# Altium integrated library Vishay Roederstein Electrolytic Snap-In Pins Capacitor.IntLib: 936 symbols (part 9 of 16)
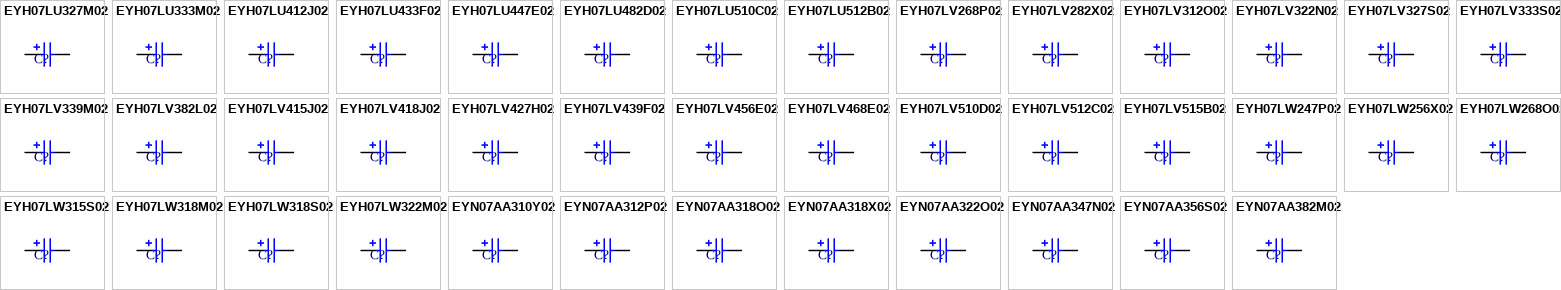
[diagram p31: symbols EYH07LU327M02 to EYN07AA382M02]

## EYH07LU333M02
designator C?
Aluminum Electrolytic Capacitor, Power Capacitor Style EYH, Snap-in 6mm Solder Pins: 330uF, 160V; PCB_Layout: Complies with Manufacturer's Recommendation.; DrillSize: Nominal, Complies with Manufacturer's Recommendation.; Published: 19-Mar-2004; DatasheetDocument: 14-Feb-2002; PackageReference: CAPPRS10-22X25; Publisher: Altium Limited; ComponentLink1Description: Manufacturer Link; ComponentLink1URL: http://www.vishay.com/; ComponentLink2Description: Datasheet; ComponentLink2URL: http://www.vishay.com/docs/25139/eyh.pdf; Value: 330uF
footprint CAPPRS10-22X25 (Capacitor, Electrolytic, Radial, Snap-In Pins; Body 22 x 25 mm (Dia.xH typ); Pin Spacing 10 mm (typ))
simulation model CAP (Capacitor)
signal-integrity model EYH07LU333M02
pins: 1, 2
1 alternate drawing of the same symbol

## EYH07LU412J02
designator C?
Aluminum Electrolytic Capacitor, Power Capacitor Style EYH, Snap-in 6mm Solder Pins: 1200uF, 63V; PCB_Layout: Complies with Manufacturer's Recommendation.; DrillSize: Nominal, Complies with Manufacturer's Recommendation.; Published: 19-Mar-2004; DatasheetDocument: 14-Feb-2002; PackageReference: CAPPRS10-22X25; Publisher: Altium Limited; ComponentLink1Description: Manufacturer Link; ComponentLink1URL: http://www.vishay.com/; ComponentLink2Description: Datasheet; ComponentLink2URL: http://www.vishay.com/docs/25139/eyh.pdf; Value: 1200uF
footprint CAPPRS10-22X25 (Capacitor, Electrolytic, Radial, Snap-In Pins; Body 22 x 25 mm (Dia.xH typ); Pin Spacing 10 mm (typ))
simulation model CAP (Capacitor)
signal-integrity model EYH07LU412J02
pins: 1, 2
1 alternate drawing of the same symbol

## EYH07LU433F02
designator C?
Aluminum Electrolytic Capacitor, Power Capacitor Style EYH, Snap-in 6mm Solder Pins: 3300uF, 35V; PCB_Layout: Complies with Manufacturer's Recommendation.; DrillSize: Nominal, Complies with Manufacturer's Recommendation.; Published: 19-Mar-2004; DatasheetDocument: 14-Feb-2002; PackageReference: CAPPRS10-22X25; Publisher: Altium Limited; ComponentLink1Description: Manufacturer Link; ComponentLink1URL: http://www.vishay.com/; ComponentLink2Description: Datasheet; ComponentLink2URL: http://www.vishay.com/docs/25139/eyh.pdf; Value: 3300uF
footprint CAPPRS10-22X25 (Capacitor, Electrolytic, Radial, Snap-In Pins; Body 22 x 25 mm (Dia.xH typ); Pin Spacing 10 mm (typ))
simulation model CAP (Capacitor)
signal-integrity model EYH07LU433F02
pins: 1, 2
1 alternate drawing of the same symbol

## EYH07LU447E02
designator C?
Aluminum Electrolytic Capacitor, Power Capacitor Style EYH, Snap-in 6mm Solder Pins: 4700uF, 25V; PCB_Layout: Complies with Manufacturer's Recommendation.; DrillSize: Nominal, Complies with Manufacturer's Recommendation.; Published: 19-Mar-2004; DatasheetDocument: 14-Feb-2002; PackageReference: CAPPRS10-22X25; Publisher: Altium Limited; ComponentLink1Description: Manufacturer Link; ComponentLink1URL: http://www.vishay.com/; ComponentLink2Description: Datasheet; ComponentLink2URL: http://www.vishay.com/docs/25139/eyh.pdf; Value: 4700uF
footprint CAPPRS10-22X25 (Capacitor, Electrolytic, Radial, Snap-In Pins; Body 22 x 25 mm (Dia.xH typ); Pin Spacing 10 mm (typ))
simulation model CAP (Capacitor)
signal-integrity model EYH07LU447E02
pins: 1, 2
1 alternate drawing of the same symbol

## EYH07LU482D02
designator C?
Aluminum Electrolytic Capacitor, Power Capacitor Style EYH, Snap-in 6mm Solder Pins: 8200uF, 16V; PCB_Layout: Complies with Manufacturer's Recommendation.; DrillSize: Nominal, Complies with Manufacturer's Recommendation.; Published: 19-Mar-2004; DatasheetDocument: 14-Feb-2002; PackageReference: CAPPRS10-22X25; Publisher: Altium Limited; ComponentLink1Description: Manufacturer Link; ComponentLink1URL: http://www.vishay.com/; ComponentLink2Description: Datasheet; ComponentLink2URL: http://www.vishay.com/docs/25139/eyh.pdf; Value: 8200uF
footprint CAPPRS10-22X25 (Capacitor, Electrolytic, Radial, Snap-In Pins; Body 22 x 25 mm (Dia.xH typ); Pin Spacing 10 mm (typ))
simulation model CAP (Capacitor)
signal-integrity model EYH07LU482D02
pins: 1, 2
1 alternate drawing of the same symbol

## EYH07LU510C02
designator C?
Aluminum Electrolytic Capacitor, Power Capacitor Style EYH, Snap-in 6mm Solder Pins: 10000uF, 10V; PCB_Layout: Complies with Manufacturer's Recommendation.; DrillSize: Nominal, Complies with Manufacturer's Recommendation.; Published: 19-Mar-2004; DatasheetDocument: 14-Feb-2002; PackageReference: CAPPRS10-22X25; Publisher: Altium Limited; ComponentLink1Description: Manufacturer Link; ComponentLink1URL: http://www.vishay.com/; ComponentLink2Description: Datasheet; ComponentLink2URL: http://www.vishay.com/docs/25139/eyh.pdf; Value: 10000uF
footprint CAPPRS10-22X25 (Capacitor, Electrolytic, Radial, Snap-In Pins; Body 22 x 25 mm (Dia.xH typ); Pin Spacing 10 mm (typ))
simulation model CAP (Capacitor)
signal-integrity model EYH07LU510C02
pins: 1, 2
1 alternate drawing of the same symbol

## EYH07LU512B02
designator C?
Aluminum Electrolytic Capacitor, Power Capacitor Style EYH, Snap-in 6mm Solder Pins: 12000uF, 6.3V; PCB_Layout: Complies with Manufacturer's Recommendation.; DrillSize: Nominal, Complies with Manufacturer's Recommendation.; Published: 19-Mar-2004; DatasheetDocument: 14-Feb-2002; PackageReference: CAPPRS10-22X25; Publisher: Altium Limited; ComponentLink1Description: Manufacturer Link; ComponentLink1URL: http://www.vishay.com/; ComponentLink2Description: Datasheet; ComponentLink2URL: http://www.vishay.com/docs/25139/eyh.pdf; Value: 12000uF
footprint CAPPRS10-22X25 (Capacitor, Electrolytic, Radial, Snap-In Pins; Body 22 x 25 mm (Dia.xH typ); Pin Spacing 10 mm (typ))
simulation model CAP (Capacitor)
signal-integrity model EYH07LU512B02
pins: 1, 2
1 alternate drawing of the same symbol

## EYH07LV268P02
designator C?
Aluminum Electrolytic Capacitor, Power Capacitor Style EYH, Snap-in 6mm Solder Pins: 68uF, 450V; PCB_Layout: Complies with Manufacturer's Recommendation.; DrillSize: Nominal, Complies with Manufacturer's Recommendation.; Published: 19-Mar-2004; DatasheetDocument: 14-Feb-2002; PackageReference: CAPPRS10-22X30; Publisher: Altium Limited; ComponentLink1Description: Manufacturer Link; ComponentLink1URL: http://www.vishay.com/; ComponentLink2Description: Datasheet; ComponentLink2URL: http://www.vishay.com/docs/25139/eyh.pdf; Value: 68uF
footprint CAPPRS10-22X30 (Capacitor, Electrolytic, Radial, Snap-In Pins; Body 22 x 30 mm (Dia.xH typ); Pin Spacing 10 mm (typ))
simulation model CAP (Capacitor)
signal-integrity model EYH07LV268P02
pins: 1, 2
1 alternate drawing of the same symbol

## EYH07LV282X02
designator C?
Aluminum Electrolytic Capacitor, Power Capacitor Style EYH, Snap-in 6mm Solder Pins: 82uF, 400V; PCB_Layout: Complies with Manufacturer's Recommendation.; DrillSize: Nominal, Complies with Manufacturer's Recommendation.; Published: 19-Mar-2004; DatasheetDocument: 14-Feb-2002; PackageReference: CAPPRS10-22X30; Publisher: Altium Limited; ComponentLink1Description: Manufacturer Link; ComponentLink1URL: http://www.vishay.com/; ComponentLink2Description: Datasheet; ComponentLink2URL: http://www.vishay.com/docs/25139/eyh.pdf; Value: 82uF
footprint CAPPRS10-22X30 (Capacitor, Electrolytic, Radial, Snap-In Pins; Body 22 x 30 mm (Dia.xH typ); Pin Spacing 10 mm (typ))
simulation model CAP (Capacitor)
signal-integrity model EYH07LV282X02
pins: 1, 2
1 alternate drawing of the same symbol

## EYH07LV312O02
designator C?
Aluminum Electrolytic Capacitor, Power Capacitor Style EYH, Snap-in 6mm Solder Pins: 120uF, 350V; PCB_Layout: Complies with Manufacturer's Recommendation.; DrillSize: Nominal, Complies with Manufacturer's Recommendation.; Published: 19-Mar-2004; DatasheetDocument: 14-Feb-2002; PackageReference: CAPPRS10-22X30; Publisher: Altium Limited; ComponentLink1Description: Manufacturer Link; ComponentLink1URL: http://www.vishay.com/; ComponentLink2Description: Datasheet; ComponentLink2URL: http://www.vishay.com/docs/25139/eyh.pdf; Value: 120uF
footprint CAPPRS10-22X30 (Capacitor, Electrolytic, Radial, Snap-In Pins; Body 22 x 30 mm (Dia.xH typ); Pin Spacing 10 mm (typ))
simulation model CAP (Capacitor)
signal-integrity model EYH07LV312O02
pins: 1, 2
1 alternate drawing of the same symbol

## EYH07LV322N02
designator C?
Aluminum Electrolytic Capacitor, Power Capacitor Style EYH, Snap-in 6mm Solder Pins: 220uF, 250V; PCB_Layout: Complies with Manufacturer's Recommendation.; DrillSize: Nominal, Complies with Manufacturer's Recommendation.; Published: 19-Mar-2004; DatasheetDocument: 14-Feb-2002; PackageReference: CAPPRS10-22X30; Publisher: Altium Limited; ComponentLink1Description: Manufacturer Link; ComponentLink1URL: http://www.vishay.com/; ComponentLink2Description: Datasheet; ComponentLink2URL: http://www.vishay.com/docs/25139/eyh.pdf; Value: 220uF
footprint CAPPRS10-22X30 (Capacitor, Electrolytic, Radial, Snap-In Pins; Body 22 x 30 mm (Dia.xH typ); Pin Spacing 10 mm (typ))
simulation model CAP (Capacitor)
signal-integrity model EYH07LV322N02
pins: 1, 2
1 alternate drawing of the same symbol

## EYH07LV327S02
designator C?
Aluminum Electrolytic Capacitor, Power Capacitor Style EYH, Snap-in 6mm Solder Pins: 270uF, 200V; PCB_Layout: Complies with Manufacturer's Recommendation.; DrillSize: Nominal, Complies with Manufacturer's Recommendation.; Published: 19-Mar-2004; DatasheetDocument: 14-Feb-2002; PackageReference: CAPPRS10-22X30; Publisher: Altium Limited; ComponentLink1Description: Manufacturer Link; ComponentLink1URL: http://www.vishay.com/; ComponentLink2Description: Datasheet; ComponentLink2URL: http://www.vishay.com/docs/25139/eyh.pdf; Value: 270uF
footprint CAPPRS10-22X30 (Capacitor, Electrolytic, Radial, Snap-In Pins; Body 22 x 30 mm (Dia.xH typ); Pin Spacing 10 mm (typ))
simulation model CAP (Capacitor)
signal-integrity model EYH07LV327S02
pins: 1, 2
1 alternate drawing of the same symbol

## EYH07LV333S02
designator C?
Aluminum Electrolytic Capacitor, Power Capacitor Style EYH, Snap-in 6mm Solder Pins: 330uF, 200V; PCB_Layout: Complies with Manufacturer's Recommendation.; DrillSize: Nominal, Complies with Manufacturer's Recommendation.; Published: 19-Mar-2004; DatasheetDocument: 14-Feb-2002; PackageReference: CAPPRS10-22X30; Publisher: Altium Limited; ComponentLink1Description: Manufacturer Link; ComponentLink1URL: http://www.vishay.com/; ComponentLink2Description: Datasheet; ComponentLink2URL: http://www.vishay.com/docs/25139/eyh.pdf; Value: 330uF
footprint CAPPRS10-22X30 (Capacitor, Electrolytic, Radial, Snap-In Pins; Body 22 x 30 mm (Dia.xH typ); Pin Spacing 10 mm (typ))
simulation model CAP (Capacitor)
signal-integrity model EYH07LV333S02
pins: 1, 2
1 alternate drawing of the same symbol

## EYH07LV339M02
designator C?
Aluminum Electrolytic Capacitor, Power Capacitor Style EYH, Snap-in 6mm Solder Pins: 390uF, 160V; PCB_Layout: Complies with Manufacturer's Recommendation.; DrillSize: Nominal, Complies with Manufacturer's Recommendation.; Published: 19-Mar-2004; DatasheetDocument: 14-Feb-2002; PackageReference: CAPPRS10-22X30; Publisher: Altium Limited; ComponentLink1Description: Manufacturer Link; ComponentLink1URL: http://www.vishay.com/; ComponentLink2Description: Datasheet; ComponentLink2URL: http://www.vishay.com/docs/25139/eyh.pdf; Value: 390uF
footprint CAPPRS10-22X30 (Capacitor, Electrolytic, Radial, Snap-In Pins; Body 22 x 30 mm (Dia.xH typ); Pin Spacing 10 mm (typ))
simulation model CAP (Capacitor)
signal-integrity model EYH07LV339M02
pins: 1, 2
1 alternate drawing of the same symbol

## EYH07LV382L02
designator C?
Aluminum Electrolytic Capacitor, Power Capacitor Style EYH, Snap-in 6mm Solder Pins: 820uF, 100V; PCB_Layout: Complies with Manufacturer's Recommendation.; DrillSize: Nominal, Complies with Manufacturer's Recommendation.; Published: 19-Mar-2004; DatasheetDocument: 14-Feb-2002; PackageReference: CAPPRS10-22X30; Publisher: Altium Limited; ComponentLink1Description: Manufacturer Link; ComponentLink1URL: http://www.vishay.com/; ComponentLink2Description: Datasheet; ComponentLink2URL: http://www.vishay.com/docs/25139/eyh.pdf; Value: 820uF
footprint CAPPRS10-22X30 (Capacitor, Electrolytic, Radial, Snap-In Pins; Body 22 x 30 mm (Dia.xH typ); Pin Spacing 10 mm (typ))
simulation model CAP (Capacitor)
signal-integrity model EYH07LV382L02
pins: 1, 2
1 alternate drawing of the same symbol

## EYH07LV415J02
designator C?
Aluminum Electrolytic Capacitor, Power Capacitor Style EYH, Snap-in 6mm Solder Pins: 1500uF, 63V; PCB_Layout: Complies with Manufacturer's Recommendation.; DrillSize: Nominal, Complies with Manufacturer's Recommendation.; Published: 19-Mar-2004; DatasheetDocument: 14-Feb-2002; PackageReference: CAPPRS10-22X30; Publisher: Altium Limited; ComponentLink1Description: Manufacturer Link; ComponentLink1URL: http://www.vishay.com/; ComponentLink2Description: Datasheet; ComponentLink2URL: http://www.vishay.com/docs/25139/eyh.pdf; Value: 1500uF
footprint CAPPRS10-22X30 (Capacitor, Electrolytic, Radial, Snap-In Pins; Body 22 x 30 mm (Dia.xH typ); Pin Spacing 10 mm (typ))
simulation model CAP (Capacitor)
signal-integrity model EYH07LV415J02
pins: 1, 2
1 alternate drawing of the same symbol

## EYH07LV418J02
designator C?
Aluminum Electrolytic Capacitor, Power Capacitor Style EYH, Snap-in 6mm Solder Pins: 1800uF, 63V; PCB_Layout: Complies with Manufacturer's Recommendation.; DrillSize: Nominal, Complies with Manufacturer's Recommendation.; Published: 19-Mar-2004; DatasheetDocument: 14-Feb-2002; PackageReference: CAPPRS10-22X30; Publisher: Altium Limited; ComponentLink1Description: Manufacturer Link; ComponentLink1URL: http://www.vishay.com/; ComponentLink2Description: Datasheet; ComponentLink2URL: http://www.vishay.com/docs/25139/eyh.pdf; Value: 1800uF
footprint CAPPRS10-22X30 (Capacitor, Electrolytic, Radial, Snap-In Pins; Body 22 x 30 mm (Dia.xH typ); Pin Spacing 10 mm (typ))
simulation model CAP (Capacitor)
signal-integrity model EYH07LV418J02
pins: 1, 2
1 alternate drawing of the same symbol

## EYH07LV427H02
designator C?
Aluminum Electrolytic Capacitor, Power Capacitor Style EYH, Snap-in 6mm Solder Pins: 2700uF, 50V; PCB_Layout: Complies with Manufacturer's Recommendation.; DrillSize: Nominal, Complies with Manufacturer's Recommendation.; Published: 19-Mar-2004; DatasheetDocument: 14-Feb-2002; PackageReference: CAPPRS10-22X30; Publisher: Altium Limited; ComponentLink1Description: Manufacturer Link; ComponentLink1URL: http://www.vishay.com/; ComponentLink2Description: Datasheet; ComponentLink2URL: http://www.vishay.com/docs/25139/eyh.pdf; Value: 2700uF
footprint CAPPRS10-22X30 (Capacitor, Electrolytic, Radial, Snap-In Pins; Body 22 x 30 mm (Dia.xH typ); Pin Spacing 10 mm (typ))
simulation model CAP (Capacitor)
signal-integrity model EYH07LV427H02
pins: 1, 2
1 alternate drawing of the same symbol

## EYH07LV439F02
designator C?
Aluminum Electrolytic Capacitor, Power Capacitor Style EYH, Snap-in 6mm Solder Pins: 3900uF, 35V; PCB_Layout: Complies with Manufacturer's Recommendation.; DrillSize: Nominal, Complies with Manufacturer's Recommendation.; Published: 19-Mar-2004; DatasheetDocument: 14-Feb-2002; PackageReference: CAPPRS10-22X30; Publisher: Altium Limited; ComponentLink1Description: Manufacturer Link; ComponentLink1URL: http://www.vishay.com/; ComponentLink2Description: Datasheet; ComponentLink2URL: http://www.vishay.com/docs/25139/eyh.pdf; Value: 3900uF
footprint CAPPRS10-22X30 (Capacitor, Electrolytic, Radial, Snap-In Pins; Body 22 x 30 mm (Dia.xH typ); Pin Spacing 10 mm (typ))
simulation model CAP (Capacitor)
signal-integrity model EYH07LV439F02
pins: 1, 2
1 alternate drawing of the same symbol

## EYH07LV456E02
designator C?
Aluminum Electrolytic Capacitor, Power Capacitor Style EYH, Snap-in 6mm Solder Pins: 5600uF, 25V; PCB_Layout: Complies with Manufacturer's Recommendation.; DrillSize: Nominal, Complies with Manufacturer's Recommendation.; Published: 19-Mar-2004; DatasheetDocument: 14-Feb-2002; PackageReference: CAPPRS10-22X30; Publisher: Altium Limited; ComponentLink1Description: Manufacturer Link; ComponentLink1URL: http://www.vishay.com/; ComponentLink2Description: Datasheet; ComponentLink2URL: http://www.vishay.com/docs/25139/eyh.pdf; Value: 5600uF
footprint CAPPRS10-22X30 (Capacitor, Electrolytic, Radial, Snap-In Pins; Body 22 x 30 mm (Dia.xH typ); Pin Spacing 10 mm (typ))
simulation model CAP (Capacitor)
signal-integrity model EYH07LV456E02
pins: 1, 2
1 alternate drawing of the same symbol

## EYH07LV468E02
designator C?
Aluminum Electrolytic Capacitor, Power Capacitor Style EYH, Snap-in 6mm Solder Pins: 6800uF, 25V; PCB_Layout: Complies with Manufacturer's Recommendation.; DrillSize: Nominal, Complies with Manufacturer's Recommendation.; Published: 19-Mar-2004; DatasheetDocument: 14-Feb-2002; PackageReference: CAPPRS10-22X30; Publisher: Altium Limited; ComponentLink1Description: Manufacturer Link; ComponentLink1URL: http://www.vishay.com/; ComponentLink2Description: Datasheet; ComponentLink2URL: http://www.vishay.com/docs/25139/eyh.pdf; Value: 6800uF
footprint CAPPRS10-22X30 (Capacitor, Electrolytic, Radial, Snap-In Pins; Body 22 x 30 mm (Dia.xH typ); Pin Spacing 10 mm (typ))
simulation model CAP (Capacitor)
signal-integrity model EYH07LV468E02
pins: 1, 2
1 alternate drawing of the same symbol

## EYH07LV510D02
designator C?
Aluminum Electrolytic Capacitor, Power Capacitor Style EYH, Snap-in 6mm Solder Pins: 10000uF, 16V; PCB_Layout: Complies with Manufacturer's Recommendation.; DrillSize: Nominal, Complies with Manufacturer's Recommendation.; Published: 19-Mar-2004; DatasheetDocument: 14-Feb-2002; PackageReference: CAPPRS10-22X30; Publisher: Altium Limited; ComponentLink1Description: Manufacturer Link; ComponentLink1URL: http://www.vishay.com/; ComponentLink2Description: Datasheet; ComponentLink2URL: http://www.vishay.com/docs/25139/eyh.pdf; Value: 10000uF
footprint CAPPRS10-22X30 (Capacitor, Electrolytic, Radial, Snap-In Pins; Body 22 x 30 mm (Dia.xH typ); Pin Spacing 10 mm (typ))
simulation model CAP (Capacitor)
signal-integrity model EYH07LV510D02
pins: 1, 2
1 alternate drawing of the same symbol

## EYH07LV512C02
designator C?
Aluminum Electrolytic Capacitor, Power Capacitor Style EYH, Snap-in 6mm Solder Pins: 12000uF, 10V; PCB_Layout: Complies with Manufacturer's Recommendation.; DrillSize: Nominal, Complies with Manufacturer's Recommendation.; Published: 19-Mar-2004; DatasheetDocument: 14-Feb-2002; PackageReference: CAPPRS10-22X30; Publisher: Altium Limited; ComponentLink1Description: Manufacturer Link; ComponentLink1URL: http://www.vishay.com/; ComponentLink2Description: Datasheet; ComponentLink2URL: http://www.vishay.com/docs/25139/eyh.pdf; Value: 12000uF
footprint CAPPRS10-22X30 (Capacitor, Electrolytic, Radial, Snap-In Pins; Body 22 x 30 mm (Dia.xH typ); Pin Spacing 10 mm (typ))
simulation model CAP (Capacitor)
signal-integrity model EYH07LV512C02
pins: 1, 2
1 alternate drawing of the same symbol

## EYH07LV515B02
designator C?
Aluminum Electrolytic Capacitor, Power Capacitor Style EYH, Snap-in 6mm Solder Pins: 15000uF, 6.3V; PCB_Layout: Complies with Manufacturer's Recommendation.; DrillSize: Nominal, Complies with Manufacturer's Recommendation.; Published: 19-Mar-2004; DatasheetDocument: 14-Feb-2002; PackageReference: CAPPRS10-22X30; Publisher: Altium Limited; ComponentLink1Description: Manufacturer Link; ComponentLink1URL: http://www.vishay.com/; ComponentLink2Description: Datasheet; ComponentLink2URL: http://www.vishay.com/docs/25139/eyh.pdf; Value: 15000uF
footprint CAPPRS10-22X30 (Capacitor, Electrolytic, Radial, Snap-In Pins; Body 22 x 30 mm (Dia.xH typ); Pin Spacing 10 mm (typ))
simulation model CAP (Capacitor)
signal-integrity model EYH07LV515B02
pins: 1, 2
1 alternate drawing of the same symbol

## EYH07LW247P02
designator C?
Aluminum Electrolytic Capacitor, Power Capacitor Style EYH, Snap-in 6mm Solder Pins: 47uF, 450V; PCB_Layout: Complies with Manufacturer's Recommendation.; DrillSize: Nominal, Complies with Manufacturer's Recommendation.; Published: 19-Mar-2004; DatasheetDocument: 14-Feb-2002; PackageReference: CAPPRS10-22X20; Publisher: Altium Limited; ComponentLink1Description: Manufacturer Link; ComponentLink1URL: http://www.vishay.com/; ComponentLink2Description: Datasheet; ComponentLink2URL: http://www.vishay.com/docs/25139/eyh.pdf; Value: 47uF
footprint CAPPRS10-22X20 (Capacitor, Electrolytic, Radial, Snap-In Pins; Body 22 x 20 mm (Dia.xH typ); Pin Spacing 10 mm (typ))
simulation model CAP (Capacitor)
signal-integrity model EYH07LW247P02
pins: 1, 2
1 alternate drawing of the same symbol

## EYH07LW256X02
designator C?
Aluminum Electrolytic Capacitor, Power Capacitor Style EYH, Snap-in 6mm Solder Pins: 56uF, 400V; PCB_Layout: Complies with Manufacturer's Recommendation.; DrillSize: Nominal, Complies with Manufacturer's Recommendation.; Published: 19-Mar-2004; DatasheetDocument: 14-Feb-2002; PackageReference: CAPPRS10-22X20; Publisher: Altium Limited; ComponentLink1Description: Manufacturer Link; ComponentLink1URL: http://www.vishay.com/; ComponentLink2Description: Datasheet; ComponentLink2URL: http://www.vishay.com/docs/25139/eyh.pdf; Value: 56uF
footprint CAPPRS10-22X20 (Capacitor, Electrolytic, Radial, Snap-In Pins; Body 22 x 20 mm (Dia.xH typ); Pin Spacing 10 mm (typ))
simulation model CAP (Capacitor)
signal-integrity model EYH07LW256X02
pins: 1, 2
1 alternate drawing of the same symbol

## EYH07LW268O02
designator C?
Aluminum Electrolytic Capacitor, Power Capacitor Style EYH, Snap-in 6mm Solder Pins: 68uF, 350V; PCB_Layout: Complies with Manufacturer's Recommendation.; DrillSize: Nominal, Complies with Manufacturer's Recommendation.; Published: 19-Mar-2004; DatasheetDocument: 14-Feb-2002; PackageReference: CAPPRS10-22X20; Publisher: Altium Limited; ComponentLink1Description: Manufacturer Link; ComponentLink1URL: http://www.vishay.com/; ComponentLink2Description: Datasheet; ComponentLink2URL: http://www.vishay.com/docs/25139/eyh.pdf; Value: 68uF
footprint CAPPRS10-22X20 (Capacitor, Electrolytic, Radial, Snap-In Pins; Body 22 x 20 mm (Dia.xH typ); Pin Spacing 10 mm (typ))
simulation model CAP (Capacitor)
signal-integrity model EYH07LW268O02
pins: 1, 2
1 alternate drawing of the same symbol

## EYH07LW315S02
designator C?
Aluminum Electrolytic Capacitor, Power Capacitor Style EYH, Snap-in 6mm Solder Pins: 150uF, 200V; PCB_Layout: Complies with Manufacturer's Recommendation.; DrillSize: Nominal, Complies with Manufacturer's Recommendation.; Published: 19-Mar-2004; DatasheetDocument: 14-Feb-2002; PackageReference: CAPPRS10-22X20; Publisher: Altium Limited; ComponentLink1Description: Manufacturer Link; ComponentLink1URL: http://www.vishay.com/; ComponentLink2Description: Datasheet; ComponentLink2URL: http://www.vishay.com/docs/25139/eyh.pdf; Value: 150uF
footprint CAPPRS10-22X20 (Capacitor, Electrolytic, Radial, Snap-In Pins; Body 22 x 20 mm (Dia.xH typ); Pin Spacing 10 mm (typ))
simulation model CAP (Capacitor)
signal-integrity model EYH07LW315S02
pins: 1, 2
1 alternate drawing of the same symbol

## EYH07LW318M02
designator C?
Aluminum Electrolytic Capacitor, Power Capacitor Style EYH, Snap-in 6mm Solder Pins: 180uF, 160V; PCB_Layout: Complies with Manufacturer's Recommendation.; DrillSize: Nominal, Complies with Manufacturer's Recommendation.; Published: 19-Mar-2004; DatasheetDocument: 14-Feb-2002; PackageReference: CAPPRS10-22X20; Publisher: Altium Limited; ComponentLink1Description: Manufacturer Link; ComponentLink1URL: http://www.vishay.com/; ComponentLink2Description: Datasheet; ComponentLink2URL: http://www.vishay.com/docs/25139/eyh.pdf; Value: 180uF
footprint CAPPRS10-22X20 (Capacitor, Electrolytic, Radial, Snap-In Pins; Body 22 x 20 mm (Dia.xH typ); Pin Spacing 10 mm (typ))
simulation model CAP (Capacitor)
signal-integrity model EYH07LW318M02
pins: 1, 2
1 alternate drawing of the same symbol

## EYH07LW318S02
designator C?
Aluminum Electrolytic Capacitor, Power Capacitor Style EYH, Snap-in 6mm Solder Pins: 180uF, 200V; PCB_Layout: Complies with Manufacturer's Recommendation.; DrillSize: Nominal, Complies with Manufacturer's Recommendation.; Published: 19-Mar-2004; DatasheetDocument: 14-Feb-2002; PackageReference: CAPPRS10-22X20; Publisher: Altium Limited; ComponentLink1Description: Manufacturer Link; ComponentLink1URL: http://www.vishay.com/; ComponentLink2Description: Datasheet; ComponentLink2URL: http://www.vishay.com/docs/25139/eyh.pdf; Value: 180uF
footprint CAPPRS10-22X20 (Capacitor, Electrolytic, Radial, Snap-In Pins; Body 22 x 20 mm (Dia.xH typ); Pin Spacing 10 mm (typ))
simulation model CAP (Capacitor)
signal-integrity model EYH07LW318S02
pins: 1, 2
1 alternate drawing of the same symbol

## EYH07LW322M02
designator C?
Aluminum Electrolytic Capacitor, Power Capacitor Style EYH, Snap-in 6mm Solder Pins: 220uF, 160V; PCB_Layout: Complies with Manufacturer's Recommendation.; DrillSize: Nominal, Complies with Manufacturer's Recommendation.; Published: 19-Mar-2004; DatasheetDocument: 14-Feb-2002; PackageReference: CAPPRS10-22X20; Publisher: Altium Limited; ComponentLink1Description: Manufacturer Link; ComponentLink1URL: http://www.vishay.com/; ComponentLink2Description: Datasheet; ComponentLink2URL: http://www.vishay.com/docs/25139/eyh.pdf; Value: 220uF
footprint CAPPRS10-22X20 (Capacitor, Electrolytic, Radial, Snap-In Pins; Body 22 x 20 mm (Dia.xH typ); Pin Spacing 10 mm (typ))
simulation model CAP (Capacitor)
signal-integrity model EYH07LW322M02
pins: 1, 2
1 alternate drawing of the same symbol

## EYN07AA310Y02
designator C?
Aluminum Electrolytic Capacitor, Power Capacitor Style EYN, Snap-in 6mm Solder Pins: 100uF, 500V; PCB_Layout: Complies with Manufacturer's Recommendation.; DrillSize: Nominal, Complies with Manufacturer's Recommendation.; Published: 19-Mar-2004; DatasheetDocument: 4-Feb-2002; PackageReference: CAPPRS10-25X35; Publisher: Altium Limited; ComponentLink1Description: Manufacturer Link; ComponentLink1URL: http://www.vishay.com/; ComponentLink2Description: Datasheet; ComponentLink2URL: http://www.vishay.com/docs/25137/eyn.pdf; Value: 100uF
footprint CAPPRS10-25X35 (Capacitor, Electrolytic, Radial, Snap-In Pins; Body 25 x 35 mm (Dia.xH typ); Pin Spacing 10 mm (typ))
simulation model CAP (Capacitor)
signal-integrity model EYN07AA310Y02
pins: 1, 2
1 alternate drawing of the same symbol

## EYN07AA312P02
designator C?
Aluminum Electrolytic Capacitor, Power Capacitor Style EYN, Snap-in 6mm Solder Pins: 120uF, 450V; PCB_Layout: Complies with Manufacturer's Recommendation.; DrillSize: Nominal, Complies with Manufacturer's Recommendation.; Published: 19-Mar-2004; DatasheetDocument: 4-Feb-2002; PackageReference: CAPPRS10-25X35; Publisher: Altium Limited; ComponentLink1Description: Manufacturer Link; ComponentLink1URL: http://www.vishay.com/; ComponentLink2Description: Datasheet; ComponentLink2URL: http://www.vishay.com/docs/25137/eyn.pdf; Value: 120uF
footprint CAPPRS10-25X35 (Capacitor, Electrolytic, Radial, Snap-In Pins; Body 25 x 35 mm (Dia.xH typ); Pin Spacing 10 mm (typ))
simulation model CAP (Capacitor)
signal-integrity model EYN07AA312P02
pins: 1, 2
1 alternate drawing of the same symbol

## EYN07AA318O02
designator C?
Aluminum Electrolytic Capacitor, Power Capacitor Style EYN, Snap-in 6mm Solder Pins: 180uF, 350V; PCB_Layout: Complies with Manufacturer's Recommendation.; DrillSize: Nominal, Complies with Manufacturer's Recommendation.; Published: 19-Mar-2004; DatasheetDocument: 4-Feb-2002; PackageReference: CAPPRS10-25X35; Publisher: Altium Limited; ComponentLink1Description: Manufacturer Link; ComponentLink1URL: http://www.vishay.com/; ComponentLink2Description: Datasheet; ComponentLink2URL: http://www.vishay.com/docs/25137/eyn.pdf; Value: 180uF
footprint CAPPRS10-25X35 (Capacitor, Electrolytic, Radial, Snap-In Pins; Body 25 x 35 mm (Dia.xH typ); Pin Spacing 10 mm (typ))
simulation model CAP (Capacitor)
signal-integrity model EYN07AA318O02
pins: 1, 2
1 alternate drawing of the same symbol

## EYN07AA318X02
designator C?
Aluminum Electrolytic Capacitor, Power Capacitor Style EYN, Snap-in 6mm Solder Pins: 180uF, 400V; PCB_Layout: Complies with Manufacturer's Recommendation.; DrillSize: Nominal, Complies with Manufacturer's Recommendation.; Published: 19-Mar-2004; DatasheetDocument: 4-Feb-2002; PackageReference: CAPPRS10-25X35; Publisher: Altium Limited; ComponentLink1Description: Manufacturer Link; ComponentLink1URL: http://www.vishay.com/; ComponentLink2Description: Datasheet; ComponentLink2URL: http://www.vishay.com/docs/25137/eyn.pdf; Value: 180uF
footprint CAPPRS10-25X35 (Capacitor, Electrolytic, Radial, Snap-In Pins; Body 25 x 35 mm (Dia.xH typ); Pin Spacing 10 mm (typ))
simulation model CAP (Capacitor)
signal-integrity model EYN07AA318X02
pins: 1, 2
1 alternate drawing of the same symbol

## EYN07AA322O02
designator C?
Aluminum Electrolytic Capacitor, Power Capacitor Style EYN, Snap-in 6mm Solder Pins: 220uF, 350V; PCB_Layout: Complies with Manufacturer's Recommendation.; DrillSize: Nominal, Complies with Manufacturer's Recommendation.; Published: 19-Mar-2004; DatasheetDocument: 4-Feb-2002; PackageReference: CAPPRS10-25X35; Publisher: Altium Limited; ComponentLink1Description: Manufacturer Link; ComponentLink1URL: http://www.vishay.com/; ComponentLink2Description: Datasheet; ComponentLink2URL: http://www.vishay.com/docs/25137/eyn.pdf; Value: 220uF
footprint CAPPRS10-25X35 (Capacitor, Electrolytic, Radial, Snap-In Pins; Body 25 x 35 mm (Dia.xH typ); Pin Spacing 10 mm (typ))
simulation model CAP (Capacitor)
signal-integrity model EYN07AA322O02
pins: 1, 2
1 alternate drawing of the same symbol

## EYN07AA347N02
designator C?
Aluminum Electrolytic Capacitor, Power Capacitor Style EYN, Snap-in 6mm Solder Pins: 470uF, 250V; PCB_Layout: Complies with Manufacturer's Recommendation.; DrillSize: Nominal, Complies with Manufacturer's Recommendation.; Published: 19-Mar-2004; DatasheetDocument: 4-Feb-2002; PackageReference: CAPPRS10-25X35; Publisher: Altium Limited; ComponentLink1Description: Manufacturer Link; ComponentLink1URL: http://www.vishay.com/; ComponentLink2Description: Datasheet; ComponentLink2URL: http://www.vishay.com/docs/25137/eyn.pdf; Value: 470uF
footprint CAPPRS10-25X35 (Capacitor, Electrolytic, Radial, Snap-In Pins; Body 25 x 35 mm (Dia.xH typ); Pin Spacing 10 mm (typ))
simulation model CAP (Capacitor)
signal-integrity model EYN07AA347N02
pins: 1, 2
1 alternate drawing of the same symbol

## EYN07AA356S02
designator C?
Aluminum Electrolytic Capacitor, Power Capacitor Style EYN, Snap-in 6mm Solder Pins: 560uF, 200V; PCB_Layout: Complies with Manufacturer's Recommendation.; DrillSize: Nominal, Complies with Manufacturer's Recommendation.; Published: 19-Mar-2004; DatasheetDocument: 4-Feb-2002; PackageReference: CAPPRS10-25X35; Publisher: Altium Limited; ComponentLink1Description: Manufacturer Link; ComponentLink1URL: http://www.vishay.com/; ComponentLink2Description: Datasheet; ComponentLink2URL: http://www.vishay.com/docs/25137/eyn.pdf; Value: 560uF
footprint CAPPRS10-25X35 (Capacitor, Electrolytic, Radial, Snap-In Pins; Body 25 x 35 mm (Dia.xH typ); Pin Spacing 10 mm (typ))
simulation model CAP (Capacitor)
signal-integrity model EYN07AA356S02
pins: 1, 2
1 alternate drawing of the same symbol

## EYN07AA382M02
designator C?
Aluminum Electrolytic Capacitor, Power Capacitor Style EYN, Snap-in 6mm Solder Pins: 820uF, 160V; PCB_Layout: Complies with Manufacturer's Recommendation.; DrillSize: Nominal, Complies with Manufacturer's Recommendation.; Published: 19-Mar-2004; DatasheetDocument: 4-Feb-2002; PackageReference: CAPPRS10-25X35; Publisher: Altium Limited; ComponentLink1Description: Manufacturer Link; ComponentLink1URL: http://www.vishay.com/; ComponentLink2Description: Datasheet; ComponentLink2URL: http://www.vishay.com/docs/25137/eyn.pdf; Value: 820uF
footprint CAPPRS10-25X35 (Capacitor, Electrolytic, Radial, Snap-In Pins; Body 25 x 35 mm (Dia.xH typ); Pin Spacing 10 mm (typ))
simulation model CAP (Capacitor)
signal-integrity model EYN07AA382M02
pins: 1, 2
1 alternate drawing of the same symbol

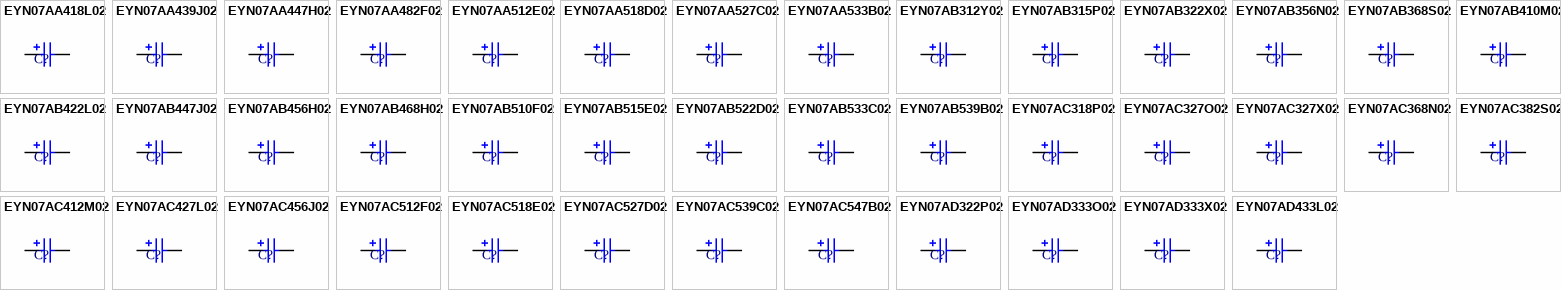
[diagram p13: symbols EYN07AA418L02 to EYN07AD433L02]

## EYN07AA418L02
designator C?
Aluminum Electrolytic Capacitor, Power Capacitor Style EYN, Snap-in 6mm Solder Pins: 1800uF, 100V; PCB_Layout: Complies with Manufacturer's Recommendation.; DrillSize: Nominal, Complies with Manufacturer's Recommendation.; Published: 19-Mar-2004; DatasheetDocument: 4-Feb-2002; PackageReference: CAPPRS10-25X35; Publisher: Altium Limited; ComponentLink1Description: Manufacturer Link; ComponentLink1URL: http://www.vishay.com/; ComponentLink2Description: Datasheet; ComponentLink2URL: http://www.vishay.com/docs/25137/eyn.pdf; Value: 1800uF
footprint CAPPRS10-25X35 (Capacitor, Electrolytic, Radial, Snap-In Pins; Body 25 x 35 mm (Dia.xH typ); Pin Spacing 10 mm (typ))
simulation model CAP (Capacitor)
signal-integrity model EYN07AA418L02
pins: 1, 2
1 alternate drawing of the same symbol

## EYN07AA439J02
designator C?
Aluminum Electrolytic Capacitor, Power Capacitor Style EYN, Snap-in 6mm Solder Pins: 3900uF, 63V; PCB_Layout: Complies with Manufacturer's Recommendation.; DrillSize: Nominal, Complies with Manufacturer's Recommendation.; Published: 19-Mar-2004; DatasheetDocument: 4-Feb-2002; PackageReference: CAPPRS10-25X35; Publisher: Altium Limited; ComponentLink1Description: Manufacturer Link; ComponentLink1URL: http://www.vishay.com/; ComponentLink2Description: Datasheet; ComponentLink2URL: http://www.vishay.com/docs/25137/eyn.pdf; Value: 3900uF
footprint CAPPRS10-25X35 (Capacitor, Electrolytic, Radial, Snap-In Pins; Body 25 x 35 mm (Dia.xH typ); Pin Spacing 10 mm (typ))
simulation model CAP (Capacitor)
signal-integrity model EYN07AA439J02
pins: 1, 2
1 alternate drawing of the same symbol

## EYN07AA447H02
designator C?
Aluminum Electrolytic Capacitor, Power Capacitor Style EYN, Snap-in 6mm Solder Pins: 4700uF, 50V; PCB_Layout: Complies with Manufacturer's Recommendation.; DrillSize: Nominal, Complies with Manufacturer's Recommendation.; Published: 19-Mar-2004; DatasheetDocument: 4-Feb-2002; PackageReference: CAPPRS10-25X35; Publisher: Altium Limited; ComponentLink1Description: Manufacturer Link; ComponentLink1URL: http://www.vishay.com/; ComponentLink2Description: Datasheet; ComponentLink2URL: http://www.vishay.com/docs/25137/eyn.pdf; Value: 4700uF
footprint CAPPRS10-25X35 (Capacitor, Electrolytic, Radial, Snap-In Pins; Body 25 x 35 mm (Dia.xH typ); Pin Spacing 10 mm (typ))
simulation model CAP (Capacitor)
signal-integrity model EYN07AA447H02
pins: 1, 2
1 alternate drawing of the same symbol

## EYN07AA482F02
designator C?
Aluminum Electrolytic Capacitor, Power Capacitor Style EYN, Snap-in 6mm Solder Pins: 8200uF, 35V; PCB_Layout: Complies with Manufacturer's Recommendation.; DrillSize: Nominal, Complies with Manufacturer's Recommendation.; Published: 19-Mar-2004; DatasheetDocument: 4-Feb-2002; PackageReference: CAPPRS10-25X35; Publisher: Altium Limited; ComponentLink1Description: Manufacturer Link; ComponentLink1URL: http://www.vishay.com/; ComponentLink2Description: Datasheet; ComponentLink2URL: http://www.vishay.com/docs/25137/eyn.pdf; Value: 8200uF
footprint CAPPRS10-25X35 (Capacitor, Electrolytic, Radial, Snap-In Pins; Body 25 x 35 mm (Dia.xH typ); Pin Spacing 10 mm (typ))
simulation model CAP (Capacitor)
signal-integrity model EYN07AA482F02
pins: 1, 2
1 alternate drawing of the same symbol

## EYN07AA512E02
designator C?
Aluminum Electrolytic Capacitor, Power Capacitor Style EYN, Snap-in 6mm Solder Pins: 12000uF, 25V; PCB_Layout: Complies with Manufacturer's Recommendation.; DrillSize: Nominal, Complies with Manufacturer's Recommendation.; Published: 19-Mar-2004; DatasheetDocument: 4-Feb-2002; PackageReference: CAPPRS10-25X35; Publisher: Altium Limited; ComponentLink1Description: Manufacturer Link; ComponentLink1URL: http://www.vishay.com/; ComponentLink2Description: Datasheet; ComponentLink2URL: http://www.vishay.com/docs/25137/eyn.pdf; Value: 12000uF
footprint CAPPRS10-25X35 (Capacitor, Electrolytic, Radial, Snap-In Pins; Body 25 x 35 mm (Dia.xH typ); Pin Spacing 10 mm (typ))
simulation model CAP (Capacitor)
signal-integrity model EYN07AA512E02
pins: 1, 2
1 alternate drawing of the same symbol

## EYN07AA518D02
designator C?
Aluminum Electrolytic Capacitor, Power Capacitor Style EYN, Snap-in 6mm Solder Pins: 18000uF, 16V; PCB_Layout: Complies with Manufacturer's Recommendation.; DrillSize: Nominal, Complies with Manufacturer's Recommendation.; Published: 19-Mar-2004; DatasheetDocument: 4-Feb-2002; PackageReference: CAPPRS10-25X35; Publisher: Altium Limited; ComponentLink1Description: Manufacturer Link; ComponentLink1URL: http://www.vishay.com/; ComponentLink2Description: Datasheet; ComponentLink2URL: http://www.vishay.com/docs/25137/eyn.pdf; Value: 18000uF
footprint CAPPRS10-25X35 (Capacitor, Electrolytic, Radial, Snap-In Pins; Body 25 x 35 mm (Dia.xH typ); Pin Spacing 10 mm (typ))
simulation model CAP (Capacitor)
signal-integrity model EYN07AA518D02
pins: 1, 2
1 alternate drawing of the same symbol

## EYN07AA527C02
designator C?
Aluminum Electrolytic Capacitor, Power Capacitor Style EYN, Snap-in 6mm Solder Pins: 27000uF, 10V; PCB_Layout: Complies with Manufacturer's Recommendation.; DrillSize: Nominal, Complies with Manufacturer's Recommendation.; Published: 19-Mar-2004; DatasheetDocument: 4-Feb-2002; PackageReference: CAPPRS10-25X35; Publisher: Altium Limited; ComponentLink1Description: Manufacturer Link; ComponentLink1URL: http://www.vishay.com/; ComponentLink2Description: Datasheet; ComponentLink2URL: http://www.vishay.com/docs/25137/eyn.pdf; Value: 27000uF
footprint CAPPRS10-25X35 (Capacitor, Electrolytic, Radial, Snap-In Pins; Body 25 x 35 mm (Dia.xH typ); Pin Spacing 10 mm (typ))
simulation model CAP (Capacitor)
signal-integrity model EYN07AA527C02
pins: 1, 2
1 alternate drawing of the same symbol

## EYN07AA533B02
designator C?
Aluminum Electrolytic Capacitor, Power Capacitor Style EYN, Snap-in 6mm Solder Pins: 33000uF, 6.3V; PCB_Layout: Complies with Manufacturer's Recommendation.; DrillSize: Nominal, Complies with Manufacturer's Recommendation.; Published: 19-Mar-2004; DatasheetDocument: 4-Feb-2002; PackageReference: CAPPRS10-25X35; Publisher: Altium Limited; ComponentLink1Description: Manufacturer Link; ComponentLink1URL: http://www.vishay.com/; ComponentLink2Description: Datasheet; ComponentLink2URL: http://www.vishay.com/docs/25137/eyn.pdf; Value: 33000uF
footprint CAPPRS10-25X35 (Capacitor, Electrolytic, Radial, Snap-In Pins; Body 25 x 35 mm (Dia.xH typ); Pin Spacing 10 mm (typ))
simulation model CAP (Capacitor)
signal-integrity model EYN07AA533B02
pins: 1, 2
1 alternate drawing of the same symbol

## EYN07AB312Y02
designator C?
Aluminum Electrolytic Capacitor, Power Capacitor Style EYN, Snap-in 6mm Solder Pins: 120uF, 500V; PCB_Layout: Complies with Manufacturer's Recommendation.; DrillSize: Nominal, Complies with Manufacturer's Recommendation.; Published: 19-Mar-2004; DatasheetDocument: 4-Feb-2002; PackageReference: CAPPRS10-25X40; Publisher: Altium Limited; ComponentLink1Description: Manufacturer Link; ComponentLink1URL: http://www.vishay.com/; ComponentLink2Description: Datasheet; ComponentLink2URL: http://www.vishay.com/docs/25137/eyn.pdf; Value: 120uF
footprint CAPPRS10-25X40 (Capacitor, Electrolytic, Radial, Snap-In Pins; Body 25 x 40 mm (Dia.xH typ); Pin Spacing 10 mm (typ))
simulation model CAP (Capacitor)
signal-integrity model EYN07AB312Y02
pins: 1, 2
1 alternate drawing of the same symbol

## EYN07AB315P02
designator C?
Aluminum Electrolytic Capacitor, Power Capacitor Style EYN, Snap-in 6mm Solder Pins: 150uF, 450V; PCB_Layout: Complies with Manufacturer's Recommendation.; DrillSize: Nominal, Complies with Manufacturer's Recommendation.; Published: 19-Mar-2004; DatasheetDocument: 4-Feb-2002; PackageReference: CAPPRS10-25X40; Publisher: Altium Limited; ComponentLink1Description: Manufacturer Link; ComponentLink1URL: http://www.vishay.com/; ComponentLink2Description: Datasheet; ComponentLink2URL: http://www.vishay.com/docs/25137/eyn.pdf; Value: 150uF
footprint CAPPRS10-25X40 (Capacitor, Electrolytic, Radial, Snap-In Pins; Body 25 x 40 mm (Dia.xH typ); Pin Spacing 10 mm (typ))
simulation model CAP (Capacitor)
signal-integrity model EYN07AB315P02
pins: 1, 2
1 alternate drawing of the same symbol

## EYN07AB322X02
designator C?
Aluminum Electrolytic Capacitor, Power Capacitor Style EYN, Snap-in 6mm Solder Pins: 220uF, 400V; PCB_Layout: Complies with Manufacturer's Recommendation.; DrillSize: Nominal, Complies with Manufacturer's Recommendation.; Published: 19-Mar-2004; DatasheetDocument: 4-Feb-2002; PackageReference: CAPPRS10-25X40; Publisher: Altium Limited; ComponentLink1Description: Manufacturer Link; ComponentLink1URL: http://www.vishay.com/; ComponentLink2Description: Datasheet; ComponentLink2URL: http://www.vishay.com/docs/25137/eyn.pdf; Value: 220uF
footprint CAPPRS10-25X40 (Capacitor, Electrolytic, Radial, Snap-In Pins; Body 25 x 40 mm (Dia.xH typ); Pin Spacing 10 mm (typ))
simulation model CAP (Capacitor)
signal-integrity model EYN07AB322X02
pins: 1, 2
1 alternate drawing of the same symbol

## EYN07AB356N02
designator C?
Aluminum Electrolytic Capacitor, Power Capacitor Style EYN, Snap-in 6mm Solder Pins: 560uF, 250V; PCB_Layout: Complies with Manufacturer's Recommendation.; DrillSize: Nominal, Complies with Manufacturer's Recommendation.; Published: 19-Mar-2004; DatasheetDocument: 4-Feb-2002; PackageReference: CAPPRS10-25X40; Publisher: Altium Limited; ComponentLink1Description: Manufacturer Link; ComponentLink1URL: http://www.vishay.com/; ComponentLink2Description: Datasheet; ComponentLink2URL: http://www.vishay.com/docs/25137/eyn.pdf; Value: 560uF
footprint CAPPRS10-25X40 (Capacitor, Electrolytic, Radial, Snap-In Pins; Body 25 x 40 mm (Dia.xH typ); Pin Spacing 10 mm (typ))
simulation model CAP (Capacitor)
signal-integrity model EYN07AB356N02
pins: 1, 2
1 alternate drawing of the same symbol

## EYN07AB368S02
designator C?
Aluminum Electrolytic Capacitor, Power Capacitor Style EYN, Snap-in 6mm Solder Pins: 680uF, 200V; PCB_Layout: Complies with Manufacturer's Recommendation.; DrillSize: Nominal, Complies with Manufacturer's Recommendation.; Published: 19-Mar-2004; DatasheetDocument: 4-Feb-2002; PackageReference: CAPPRS10-25X40; Publisher: Altium Limited; ComponentLink1Description: Manufacturer Link; ComponentLink1URL: http://www.vishay.com/; ComponentLink2Description: Datasheet; ComponentLink2URL: http://www.vishay.com/docs/25137/eyn.pdf; Value: 680uF
footprint CAPPRS10-25X40 (Capacitor, Electrolytic, Radial, Snap-In Pins; Body 25 x 40 mm (Dia.xH typ); Pin Spacing 10 mm (typ))
simulation model CAP (Capacitor)
signal-integrity model EYN07AB368S02
pins: 1, 2
1 alternate drawing of the same symbol

## EYN07AB410M02
designator C?
Aluminum Electrolytic Capacitor, Power Capacitor Style EYN, Snap-in 6mm Solder Pins: 1000uF, 160V; PCB_Layout: Complies with Manufacturer's Recommendation.; DrillSize: Nominal, Complies with Manufacturer's Recommendation.; Published: 19-Mar-2004; DatasheetDocument: 4-Feb-2002; PackageReference: CAPPRS10-25X40; Publisher: Altium Limited; ComponentLink1Description: Manufacturer Link; ComponentLink1URL: http://www.vishay.com/; ComponentLink2Description: Datasheet; ComponentLink2URL: http://www.vishay.com/docs/25137/eyn.pdf; Value: 1000uF
footprint CAPPRS10-25X40 (Capacitor, Electrolytic, Radial, Snap-In Pins; Body 25 x 40 mm (Dia.xH typ); Pin Spacing 10 mm (typ))
simulation model CAP (Capacitor)
signal-integrity model EYN07AB410M02
pins: 1, 2
1 alternate drawing of the same symbol

## EYN07AB422L02
designator C?
Aluminum Electrolytic Capacitor, Power Capacitor Style EYN, Snap-in 6mm Solder Pins: 2200uF, 100V; PCB_Layout: Complies with Manufacturer's Recommendation.; DrillSize: Nominal, Complies with Manufacturer's Recommendation.; Published: 19-Mar-2004; DatasheetDocument: 4-Feb-2002; PackageReference: CAPPRS10-25X40; Publisher: Altium Limited; ComponentLink1Description: Manufacturer Link; ComponentLink1URL: http://www.vishay.com/; ComponentLink2Description: Datasheet; ComponentLink2URL: http://www.vishay.com/docs/25137/eyn.pdf; Value: 2200uF
footprint CAPPRS10-25X40 (Capacitor, Electrolytic, Radial, Snap-In Pins; Body 25 x 40 mm (Dia.xH typ); Pin Spacing 10 mm (typ))
simulation model CAP (Capacitor)
signal-integrity model EYN07AB422L02
pins: 1, 2
1 alternate drawing of the same symbol

## EYN07AB447J02
designator C?
Aluminum Electrolytic Capacitor, Power Capacitor Style EYN, Snap-in 6mm Solder Pins: 4700uF, 63V; PCB_Layout: Complies with Manufacturer's Recommendation.; DrillSize: Nominal, Complies with Manufacturer's Recommendation.; Published: 19-Mar-2004; DatasheetDocument: 4-Feb-2002; PackageReference: CAPPRS10-25X40; Publisher: Altium Limited; ComponentLink1Description: Manufacturer Link; ComponentLink1URL: http://www.vishay.com/; ComponentLink2Description: Datasheet; ComponentLink2URL: http://www.vishay.com/docs/25137/eyn.pdf; Value: 4700uF
footprint CAPPRS10-25X40 (Capacitor, Electrolytic, Radial, Snap-In Pins; Body 25 x 40 mm (Dia.xH typ); Pin Spacing 10 mm (typ))
simulation model CAP (Capacitor)
signal-integrity model EYN07AB447J02
pins: 1, 2
1 alternate drawing of the same symbol

## EYN07AB456H02
designator C?
Aluminum Electrolytic Capacitor, Power Capacitor Style EYN, Snap-in 6mm Solder Pins: 5600uF, 50V; PCB_Layout: Complies with Manufacturer's Recommendation.; DrillSize: Nominal, Complies with Manufacturer's Recommendation.; Published: 19-Mar-2004; DatasheetDocument: 4-Feb-2002; PackageReference: CAPPRS10-25X40; Publisher: Altium Limited; ComponentLink1Description: Manufacturer Link; ComponentLink1URL: http://www.vishay.com/; ComponentLink2Description: Datasheet; ComponentLink2URL: http://www.vishay.com/docs/25137/eyn.pdf; Value: 5600uF
footprint CAPPRS10-25X40 (Capacitor, Electrolytic, Radial, Snap-In Pins; Body 25 x 40 mm (Dia.xH typ); Pin Spacing 10 mm (typ))
simulation model CAP (Capacitor)
signal-integrity model EYN07AB456H02
pins: 1, 2
1 alternate drawing of the same symbol

## EYN07AB468H02
designator C?
Aluminum Electrolytic Capacitor, Power Capacitor Style EYN, Snap-in 6mm Solder Pins: 6800uF, 50V; PCB_Layout: Complies with Manufacturer's Recommendation.; DrillSize: Nominal, Complies with Manufacturer's Recommendation.; Published: 19-Mar-2004; DatasheetDocument: 4-Feb-2002; PackageReference: CAPPRS10-25X40; Publisher: Altium Limited; ComponentLink1Description: Manufacturer Link; ComponentLink1URL: http://www.vishay.com/; ComponentLink2Description: Datasheet; ComponentLink2URL: http://www.vishay.com/docs/25137/eyn.pdf; Value: 6800uF
footprint CAPPRS10-25X40 (Capacitor, Electrolytic, Radial, Snap-In Pins; Body 25 x 40 mm (Dia.xH typ); Pin Spacing 10 mm (typ))
simulation model CAP (Capacitor)
signal-integrity model EYN07AB468H02
pins: 1, 2
1 alternate drawing of the same symbol

## EYN07AB510F02
designator C?
Aluminum Electrolytic Capacitor, Power Capacitor Style EYN, Snap-in 6mm Solder Pins: 10000uF, 35V; PCB_Layout: Complies with Manufacturer's Recommendation.; DrillSize: Nominal, Complies with Manufacturer's Recommendation.; Published: 19-Mar-2004; DatasheetDocument: 4-Feb-2002; PackageReference: CAPPRS10-25X40; Publisher: Altium Limited; ComponentLink1Description: Manufacturer Link; ComponentLink1URL: http://www.vishay.com/; ComponentLink2Description: Datasheet; ComponentLink2URL: http://www.vishay.com/docs/25137/eyn.pdf; Value: 10000uF
footprint CAPPRS10-25X40 (Capacitor, Electrolytic, Radial, Snap-In Pins; Body 25 x 40 mm (Dia.xH typ); Pin Spacing 10 mm (typ))
simulation model CAP (Capacitor)
signal-integrity model EYN07AB510F02
pins: 1, 2
1 alternate drawing of the same symbol

## EYN07AB515E02
designator C?
Aluminum Electrolytic Capacitor, Power Capacitor Style EYN, Snap-in 6mm Solder Pins: 15000uF, 25V; PCB_Layout: Complies with Manufacturer's Recommendation.; DrillSize: Nominal, Complies with Manufacturer's Recommendation.; Published: 19-Mar-2004; DatasheetDocument: 4-Feb-2002; PackageReference: CAPPRS10-25X40; Publisher: Altium Limited; ComponentLink1Description: Manufacturer Link; ComponentLink1URL: http://www.vishay.com/; ComponentLink2Description: Datasheet; ComponentLink2URL: http://www.vishay.com/docs/25137/eyn.pdf; Value: 15000uF
footprint CAPPRS10-25X40 (Capacitor, Electrolytic, Radial, Snap-In Pins; Body 25 x 40 mm (Dia.xH typ); Pin Spacing 10 mm (typ))
simulation model CAP (Capacitor)
signal-integrity model EYN07AB515E02
pins: 1, 2
1 alternate drawing of the same symbol

## EYN07AB522D02
designator C?
Aluminum Electrolytic Capacitor, Power Capacitor Style EYN, Snap-in 6mm Solder Pins: 22000uF, 16V; PCB_Layout: Complies with Manufacturer's Recommendation.; DrillSize: Nominal, Complies with Manufacturer's Recommendation.; Published: 19-Mar-2004; DatasheetDocument: 4-Feb-2002; PackageReference: CAPPRS10-25X40; Publisher: Altium Limited; ComponentLink1Description: Manufacturer Link; ComponentLink1URL: http://www.vishay.com/; ComponentLink2Description: Datasheet; ComponentLink2URL: http://www.vishay.com/docs/25137/eyn.pdf; Value: 22000uF
footprint CAPPRS10-25X40 (Capacitor, Electrolytic, Radial, Snap-In Pins; Body 25 x 40 mm (Dia.xH typ); Pin Spacing 10 mm (typ))
simulation model CAP (Capacitor)
signal-integrity model EYN07AB522D02
pins: 1, 2
1 alternate drawing of the same symbol